# EAGLE library part 2081-1206/200-604 (library con-wago_2081)
Serie 2081, Klemmenleiste mit Betätigungsdrückern mit abgewinkelten Lötstiften in Reihe / Series 2081, Terminal strip with push-buttons with angled, in-line solder pins Polzahl / Pole No.: 6 Rastermaß / Pitch: 3.5 mm Bemessungsspannung / Rated Voltage: 160 V Nennstrom / Nominal Current: 17.5 A Leiterquerschnitt / Conductor Size: 0.2 - 1.5 mm2 Anschlusstechnik / Connection Technology: CAGE CLAMP® S Lötstiftlänge: / Solder Pin Length: 2.4 mm Leitereinführung (zur Platine) / Conductor entry angle (to PCB): 0 ° Farbe / Color: schwarz / black Stand: 01.01.2014. Die jeweils aktuellen Daten zu diesem Artikel finden Sie in unserem Produktkatalog, den Sie unter www.wago.com einsehen können. As of: 01/01/2014. Please find the newest data for this article in our product catalogue, which can be viewed under www.wago.com.
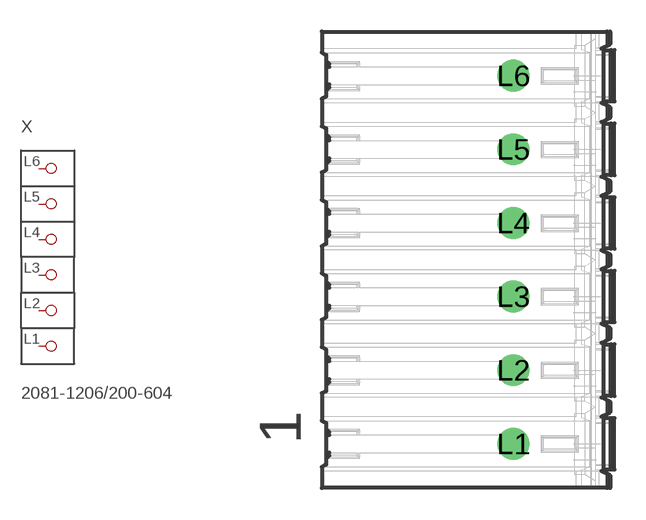
[diagram p9: symbol with the pads of P-2081-1206/200-604; footprint P-2081-1206/200-604]

Designator prefix X

## 2081-1206/200-604  [P-2081-1206/200-604]
L1  P1
L2  P2
L3  P3
L4  P4
L5  P5
L6  P6

## Footprint P-2081-1206/200-604 (pad centres in mm)
drill 1: L1 2.15,-8.75; L2 2.15,-5.25; L3 2.15,-1.75; L4 2.15,1.75; L5 2.15,5.25; L6 2.15,8.75